# Altium schematic symbol library Buck_and_Inverter.SchLib: 2 symbols
Pins are listed as number, name and electrical type; pins without a type are passive.

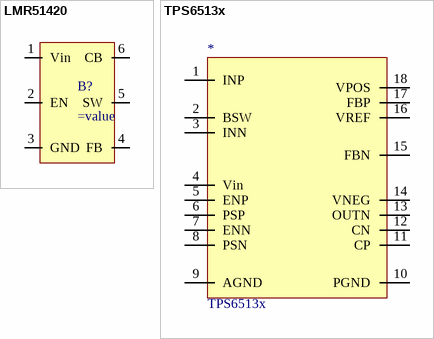
[diagram p0: symbols LMR51420 to TPS6513x]

## LMR51420
designator B?
pins: 1 Vin, 2 EN, 3 GND, 4 FB, 5 SW, 6 CB

## TPS6513x
designator *
pins: 1 INP, 2 BSW, 3 INN, 4 Vin, 5 ENP, 6 PSP, 7 ENN, 8 PSN, 9 AGND, 10 PGND, 11 CP, 12 CN, 13 OUTN, 14 VNEG, 15 FBN, 16 VREF, 17 FBP, 18 VPOS